# EAGLE library part MDBT50Q-ATMS (library MDBT50Q-AMTS_52833_230606)
Raytac Corporation Part Number: MDBT50Q-ATMS / MDBT50Q-PATMS / MDBT50Q-UATMS Bluetooth Low Energy Module based on Noridc nRF52833 Size: 15.5x10.5mm Source: Raytac datasheet
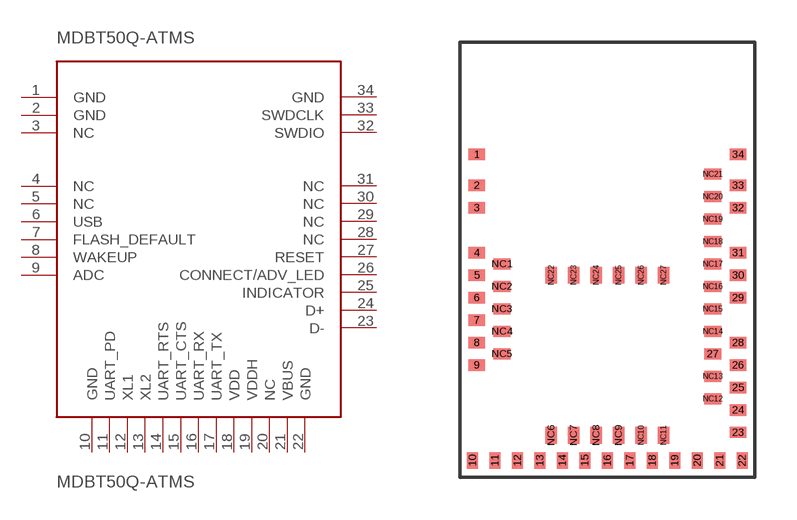
[diagram p0: symbol with the pads of MDBT50Q-ATMS; footprint MDBT50Q-ATMS]

Designator prefix MDBT50Q-ATMS

## MDBT50Q-ATMS  [MDBT50Q-ATMS]
1  GND
2  GND
3  NC
4  NC
5  NC
6  USB
7  FLASH_DEFAULT
8  WAKEUP
9  ADC
10  GND
11  UART_PD
12  XL1
13  XL2
14  UART_RTS
15  UART_CTS
16  UART_RX
17  UART_TX
18  VDD
19  VDDH
20  NC
21  VBUS
22  GND
23  D-
24  D+
25  INDICATOR
26  CONNECT/ADV_LED
27  RESET
28  NC
29  NC
30  NC
31  NC
32  SWDIO
33  SWDCLK
34  GND

## Footprint MDBT50Q-ATMS (pad centres in mm)
Raytac Corporation Part Number: MDBT50Q-ATMS / MDBT50Q-PATMS Bluetooth Low Energy Module based on Noridc nRF52833 Size: 15.5x10.5mm Source: Raytac datasheet
smd 0.6 x 0.4: 1 -4.65,3.75; 2 -4.65,2.65; 3 -4.65,1.85; 4 -4.65,0.25; 5 -4.65,-0.55; 6 -4.65,-1.35; 7 -4.65,-2.15; 8 -4.65,-2.95; 9 -4.65,-3.75; 23 4.65,-6.15; 24 4.65,-5.35; 25 4.65,-4.55; 26 4.65,-3.75; 27 3.75,-3.35; 28 4.65,-2.95; 29 4.65,-1.35; 30 4.65,-0.55; 31 4.65,0.25; 32 4.65,1.85; 33 4.65,2.65; 34 4.65,3.75; NC1 -3.75,-0.15; NC2 -3.75,-0.95; NC3 -3.75,-1.75; NC4 -3.75,-2.55; NC5 -3.75,-3.35; NC12 3.75,-4.95; NC13 3.75,-4.15; NC14 3.75,-2.55; NC15 3.75,-1.75; NC16 3.75,-0.95; NC17 3.75,-0.15; NC18 3.75,0.65; NC19 3.75,1.45; NC20 3.75,2.25; NC21 3.75,3.05
smd 0.4 x 0.6: 10 -4.8,-7.15; 11 -4,-7.15; 12 -3.2,-7.15; 13 -2.4,-7.15; 14 -1.6,-7.15; 15 -0.8,-7.15; 16 0,-7.15; 17 0.8,-7.15; 18 1.6,-7.15; 19 2.4,-7.15; 20 3.2,-7.15; 21 4,-7.15; 22 4.8,-7.15; NC6 -2,-6.25; NC7 -1.2,-6.25; NC8 -0.4,-6.25; NC9 0.4,-6.25; NC10 1.2,-6.25; NC11 2,-6.25; NC22 -2,-0.55; NC23 -1.2,-0.55; NC24 -0.4,-0.55; NC25 0.4,-0.55; NC26 1.2,-0.55; NC27 2,-0.55